# Altium footprint library PcbLib1.PcbLib: 278 footprints (part 18 of 18)
Each footprint in its own frame and in the unit in brackets; x right, y up, seen from the top. Pads: shape width x height; smd on the part's side, far side on the other; paste and mask are expansions set on the pad; w line width, h text height; cw(c..) or ccw(c..) is an arc to the next point about the centre after c.
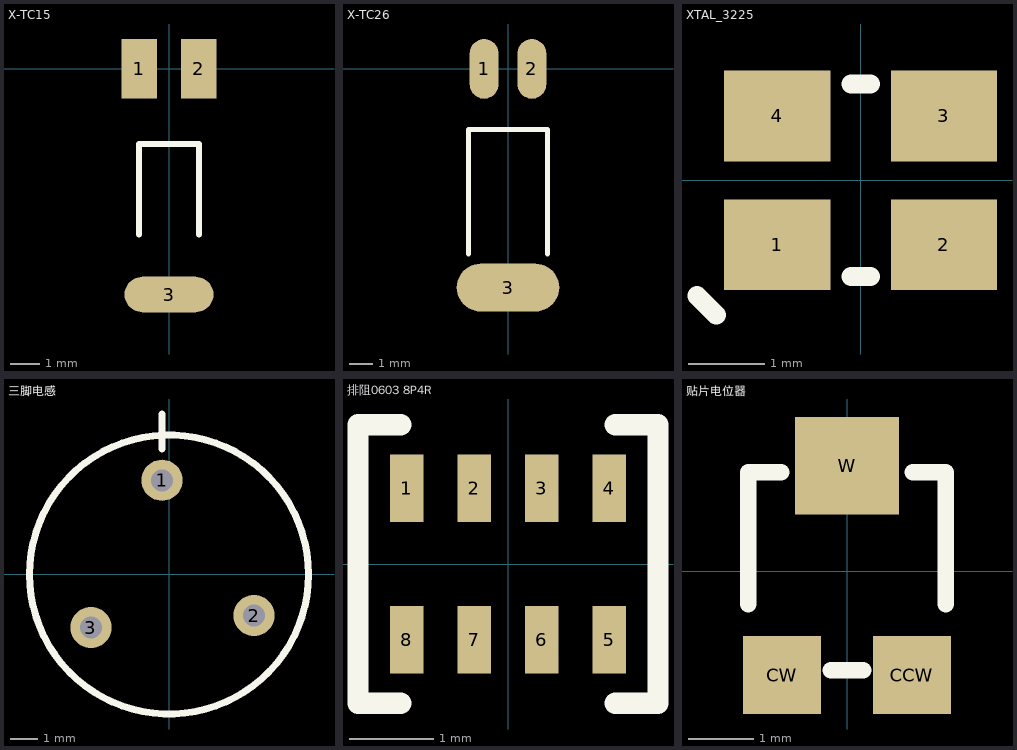
[diagram p17: the footprints below, top view; thin cyan lines are the x and y axes]

## X-TC15 [mm] "圆柱晶振1"
pads (3):
  rect 1.2x2 smd: 1(-1,0) 2(1,0)
  oval 3x1.2 smd: 3(0,-7.62)
Top Overlay:
  lines w0.2: -1.016,-5.588 -1.016,-2.54 1.016,-2.54 1.016,-5.588
3D body: height 1.1, standoff 0.9, extent 0.535,-3 0.735,0
3D body: height 1.1, standoff 0.9, extent -0.735,-3 -0.535,0
3D body: height 1.99, standoff 0, extent -0.998,-8.286 0.998,-2.286

## X-TC26 [mm] "圆柱晶振2"
pads (3):
  oval 1.2x2.5 smd: 1(-1,0) 2(1,0)
  oval 4.3x2 smd: 3(0,-9.144)
Top Overlay:
  lines w0.2: -1.651,-7.747 -1.651,-2.54 1.651,-2.54 1.651,-7.747

## XTAL_3225 [mm] "贴片晶振3225封装"
pads (4):
  rect 1.4x1.2 smd: 1(-1.1,-0.85) 2(1.1,-0.85) 3(1.1,0.85) 4(-1.1,0.85)
Top Overlay:
  lines w0.254: -2.159,-1.524 -1.905,-1.778 ; -0.127,-1.27 0.127,-1.27 ; -0.127,1.27 0.127,1.27

## 三脚电感 [mm]
pads (3):
  round 1.5 hole 0.8: 1(-0.254,3.429) 2(3.097,-1.495) 3(-2.843,-1.934)
Top Overlay:
  circle w0.254: c0,0 r5.08
  lines w0.254: -0.254,4.572 -0.254,5.842

## 排阻0603 8P4R [mm]
pads (8):
  rect 0.4x0.8 smd: 1(-1.2,0.9) 2(-0.4,0.9) 3(0.4,0.9) 4(1.2,0.9) 5(1.2,-0.9) 6(0.4,-0.9) 7(-0.4,-0.9) 8(-1.2,-0.9)
Top Overlay:
  lines w0.254: -1.27,-1.65 -1.778,-1.65 -1.778,1.65 -1.27,1.65 ; 1.27,-1.65 1.778,-1.65 1.778,1.65 1.27,1.65

## 贴片电位器 [mm]
pads (3):
  rect 1.2x1.2 smd: CCW(1,-1.6) CW(-1,-1.6)
  rect 1.6x1.5 smd: W(0,1.625)
Top Overlay:
  lines w0.254: -1.524,-0.508 -1.524,1.524 -1.016,1.524 ; -0.254,-1.524 0.254,-1.524 ; 1.016,1.524 1.524,1.524 1.524,-0.508